# Altium schematic symbol library B82804A.SchLib: 1 symbol
Pins are listed as number, name and electrical type; pins without a type are passive.

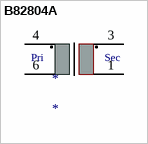
[diagram p0: symbol B82804A]

## B82804A
designator *
pins: 1, 3, 4, 6
text: Pri; Sec